# Altium schematic symbol library ICL_modules_v1.SchLib: 17 symbols
Pins are listed as number, name and electrical type; pins without a type are passive.

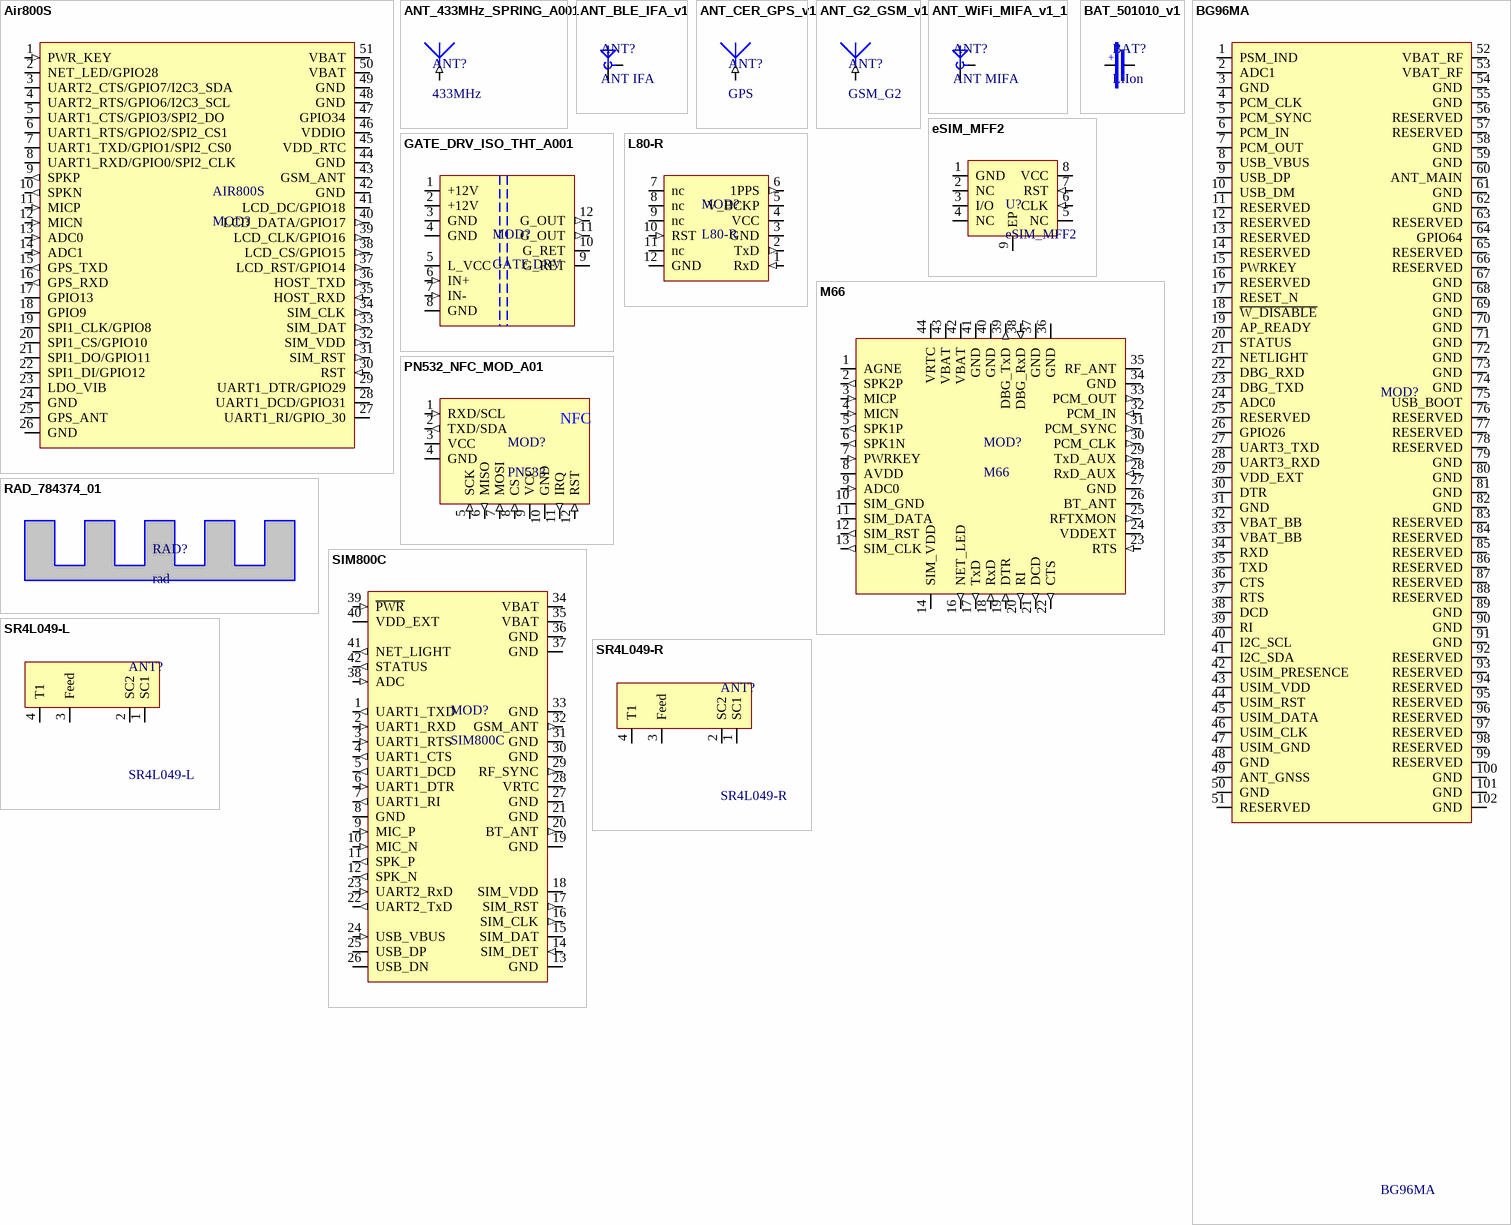
[diagram p0: symbols Air800S to SR4L049-R]

## Air800S
designator AIR800S, comment MOD?
footprint AIR800S
pins: 1 PWR_KEY (in), 2 NET_LED/GPIO28 (io), 3 UART2_CTS/GPIO7/I2C3_SDA (io), 4 UART2_RTS/GPIO6/I2C3_SCL (io), 5 UART1_CTS/GPIO3/SPI2_DO (io), 6 UART1_RTS/GPIO2/SPI2_CS1 (io), 7 UART1_TXD/GPIO1/SPI2_CS0 (io), 8 UART1_RXD/GPIO0/SPI2_CLK (io), 9 SPKP (out), 10 SPKN (out), 11 MICP (in), 12 MICN (in), 13 ADC0 (in), 14 ADC1 (in), 15 GPS_TXD (out), 16 GPS_RXD (out), 17 GPIO13 (io), 18 GPIO9 (io), 19 SPI1_CLK/GPIO8 (io), 20 SPI1_CS/GPIO10 (io), 21 SPI1_DO/GPIO11 (io), 22 SPI1_DI/GPIO12 (io), 23 LDO_VIB (power), 24 GND (power), 25 GPS_ANT (power), 26 GND (power), 27 UART1_RI/GPIO_30 (io), 28 UART1_DCD/GPIO31 (io), 29 UART1_DTR/GPIO29 (io), 30 RST (in), 31 SIM_RST (out), 32 SIM_VDD (out), 33 SIM_DAT (out), 34 SIM_CLK (out), 35 HOST_RXD (in), 36 HOST_TXD (out), 37 LCD_RST/GPIO14 (out), 38 LCD_CS/GPIO15 (out), 39 LCD_CLK/GPIO16 (out), 40 LCD_DATA/GPIO17 (out), 41 LCD_DC/GPIO18 (io), 42 GND (power), 43 GSM_ANT, 44 GND (power), 45 VDD_RTC (power), 46 VDDIO (power), 47 GPIO34 (io), 48 GND (power), 49 GND (power), 50 VBAT (power), 51 VBAT (power)

## ANT_433MHz_SPRING_A001
designator ANT?, comment 433MHz
433MHz spring
footprint ANT_433MHz_SPIR_A001
pins: 1 (in)

## ANT_BLE_IFA_v1
designator ANT?, comment ANT IFA
footprint ANT_BLE_v1 (2,4GHz)
footprint ANT_BLE_v2 (2,4GHz from NORDIC)
pins: 1, 2

## ANT_CER_GPS_v1
designator ANT?, comment GPS
ground plane 27mm x 27mm
footprint ANT1590-2540A (GPS_ANT)
pins: 1 (in)

## ANT_G2_GSM_v1
designator ANT?, comment GSM_G2
1,6 - 1,4 mm FR4
footprint GSM_G2_ANT (50 Ohm)
footprint GSM_G2_ANT_BOTTOM (50 Ohm)
pins: 1 (in)

## ANT_WiFi_MIFA_v1_1
designator ANT?, comment ANT MIFA  (net tie, no BOM)
footprint ANT_WiFi_MIFA_1
footprint ANT_WiFi_MIFA_R_1
pins: 1, 2

## BAT_501010_v1
designator BAT?, comment LiIon
40mAh 105050; ICLN: BAT_LiIon_501010_A001
footprint BAT_501010 (battery 10x10x5)
pins: 1 -, 2 +

## BG96MA
designator MOD?
LTE Module; Manufacturer_Name: Quectel; Geometry.Height: 2mm; Manufacturer_Part_Number: BG96MA; RS Part Number: *; RS Price/Stock: *; Arrow Part Number: BG96MA; Arrow Price/Stock: *; Datasheet Link: http://www.quectel.com/product/bg96.htm
footprint BG96MA
pins: 1 PSM_IND, 2 ADC1, 3 GND, 4 PCM_CLK, 5 PCM_SYNC, 6 PCM_IN, 7 PCM_OUT, 8 USB_VBUS, 9 USB_DP, 10 USB_DM, 11 RESERVED, 12 RESERVED, 13 RESERVED, 14 RESERVED, 15 PWRKEY, 16 RESERVED, 17 RESET_N, 18 ~{W_DISABLE}, 19 AP_READY, 20 STATUS, 21 NETLIGHT, 22 DBG_RXD, 23 DBG_TXD, 24 ADC0, 25 RESERVED, 26 GPIO26, 27 UART3_TXD, 28 UART3_RXD, 29 VDD_EXT, 30 DTR, 31 GND, 32 VBAT_BB, 33 VBAT_BB, 34 RXD, 35 TXD, 36 CTS, 37 RTS, 38 DCD, 39 RI, 40 I2C_SCL, 41 I2C_SDA, 42 USIM_PRESENCE, 43 USIM_VDD, 44 USIM_RST, 45 USIM_DATA, 46 USIM_CLK, 47 USIM_GND, 48 GND, 49 ANT_GNSS, 50 GND, 51 RESERVED, 52 VBAT_RF, 53 VBAT_RF, 54 GND, 55 GND, 56 RESERVED, 57 RESERVED, 58 GND, 59 GND, 60 ANT_MAIN, 61 GND, 62 GND, 63 RESERVED, 64 GPIO64, 65 RESERVED, 66 RESERVED, 67 GND, 68 GND, 69 GND, 70 GND, 71 GND, 72 GND, 73 GND, 74 GND, 75 USB_BOOT, 76 RESERVED, 77 RESERVED, 78 RESERVED, 79 GND, 80 GND, 81 GND, 82 GND, 83 RESERVED, 84 RESERVED, 85 RESERVED, 86 RESERVED, 87 RESERVED, 88 RESERVED, 89 GND, 90 GND, 91 GND, 92 RESERVED, 93 RESERVED, 94 RESERVED, 95 RESERVED, 96 RESERVED, 97 RESERVED, 98 RESERVED, 99 RESERVED, 100 GND, 101 GND, 102 GND

## eSIM_MFF2
designator U?
footprint MFF2-8 (PSON, 8-Leads, Body 5,08x6,08mm, Pitch 1,27mm, Thermal Pad 4,25x3,45mm, IPC Low Density)
pins: 1 GND (power), 2 NC, 3 I/O (io), 4 NC, 5 NC, 6 CLK (in), 7 RST (in), 8 VCC (power), 9 EP

## GATE_DRV_ISO_THT_A001
designator MOD?, comment GATE DRV
Gate driver module; ICLN: MOD_GATE_DRV_ISO_THT_A001
footprint GATE_DRV_ISO_BIP_6A_A001 (Gate driver module isolated 6A)
pins: 1 +12V (power), 2 +12V (power), 3 GND (power), 4 GND (power), 5 L_VCC (power), 6 IN+ (in), 7 IN- (in), 8 GND (power), 9 G_RET, 10 G_RET, 11 G_OUT (out), 12 G_OUT (out)

## L80-R
designator MOD?
footprint L80-R
pins: 1 RxD (in), 2 TxD (out), 3 GND (power), 4 VCC (power), 5 V_BCKP (power), 6 1PPS (out), 7 nc, 8 nc, 9 nc, 10 RST (in), 11 nc, 12 GND (power)

## M66
designator MOD?
Quectel M66
footprint M66
pins: 1 AGNE (power), 2 SPK2P (out), 3 MICP (in), 4 MICN (in), 5 SPK1P (out), 6 SPK1N (out), 7 PWRKEY (in), 8 AVDD (power), 9 ADC0 (in), 10 SIM_GND (power), 11 SIM_DATA (io), 12 SIM_RST (out), 13 SIM_CLK (out), 14 SIM_VDD (power), 16 NET_LED (out), 17 TxD (out), 18 RxD (in), 19 DTR (in), 20 RI (out), 21 DCD (out), 22 CTS (out), 23 RTS (in), 24 VDDEXT (power), 25 RFTXMON (out), 26 BT_ANT, 27 GND (power), 28 RxD_AUX (in), 29 TxD_AUX (out), 30 PCM_CLK (out), 31 PCM_SYNC (out), 32 PCM_IN (in), 33 PCM_OUT (out), 34 GND (power), 35 RF_ANT, 36 GND (power), 37 GND (power), 38 DBG_RxD (in), 39 DBG_TxD (out), 40 GND (power), 41 GND (power), 42 VBAT (power), 43 VBAT (power), 44 VRTC (power)

## PN532_NFC_MOD_A01
designator MOD?, comment PN533
NFC module; ICLN: MOD_PN532_THT_A001
footprint PN532_MODULE_A01 (NFC module)
pins: 1 RXD/SCL (in), 2 TXD/SDA (out), 3 VCC (power), 4 GND (power), 5 SCK (in), 6 MISO (out), 7 MOSI (in), 8 CS (in), 9 VCC (power), 10 GND (power), 11 IRQ (out), 12 RST (in)
text: NFC

## RAD_784374_01
designator RAD?, comment rad
footprint RAD_784374_1

## SIM800C
designator MOD?
footprint SIM800C
pins: 1 UART1_TXD (out), 2 UART1_RXD (in), 3 UART1_RTS (in), 4 UART1_CTS (out), 5 UART1_DCD (out), 6 UART1_DTR (in), 7 UART1_RI (out), 8 GND (power), 9 MIC_P (in), 10 MIC_N (in), 11 SPK_P (out), 12 SPK_N (out), 13 GND (power), 14 SIM_DET (in), 15 SIM_DAT (io), 16 SIM_CLK (out), 17 SIM_RST (out), 18 SIM_VDD (power), 19 GND (power), 20 BT_ANT (out), 21 GND (power), 22 UART2_TxD (out), 23 UART2_RxD (in), 24 USB_VBUS (in), 25 USB_DP (io), 26 USB_DN (io), 27 GND (power), 28 VRTC (power), 29 RF_SYNC (out), 30 GND (power), 31 GND (power), 32 GSM_ANT (out), 33 GND (power), 34 VBAT (power), 35 VBAT (power), 36 GND (power), 37 GND (power), 38 ADC (in), 39 ~{PWR} (in), 40 VDD_EXT (power), 41 NET_LIGHT (out), 42 STATUS (out)

## SR4L049-L
designator ANT?
Antenna LTE; Manufacturer_Name: Antenova; Manufacturer_Part_Number: SR4C033-R; Geometry.Height: 1mm; RS Part Number: *; RS Price/Stock: *; Mouser Part Number: 237-SR4C033-R; Mouser Price/Stock: https://www.mouser.com/Search/Refine.aspx?Keyword=237-SR4C033-R; Datasheet Link: https://componentsearchengine.com/Datasheets/1/SR4C033-R.pdf
footprint SR4L049-L
pins: 1 SC1, 2 SC2, 3 Feed, 4 T1

## SR4L049-R
designator ANT?
Antenna LTE; Manufacturer_Name: Antenova; Manufacturer_Part_Number: SR4C033-R; Geometry.Height: 1mm; RS Part Number: *; RS Price/Stock: *; Mouser Part Number: 237-SR4C033-R; Mouser Price/Stock: https://www.mouser.com/Search/Refine.aspx?Keyword=237-SR4C033-R; Datasheet Link: https://componentsearchengine.com/Datasheets/1/SR4C033-R.pdf
footprint SR4L049-R
pins: 1 SC1, 2 SC2, 3 Feed, 4 T1